# EAGLE library part TEN5_DUAL (library traco_ten)
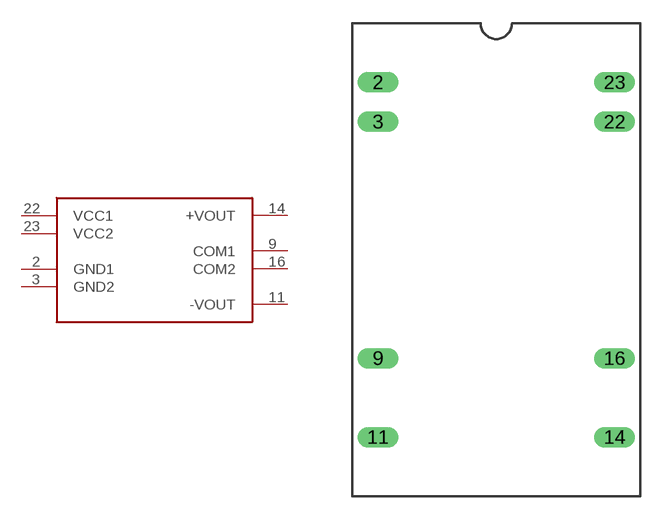
[diagram p1: symbol with the pads of TEN5_DUAL; footprint TEN5_DUAL]

Designator prefix -

## TEN5_DUAL  [TEN5_DUAL]
2  GND1  sup
3  GND2  sup
9  COM1  out
11  -VOUT  out
14  +VOUT  out
16  COM2  out
22  VCC1  sup
23  VCC2  sup

## Footprint TEN5_DUAL (pad centres in mm)
Dual In Line Package
drill 0.813 long: 2 -8.89,10.16; 3 -8.89,7.62; 9 -8.89,-7.62; 11 -8.89,-12.7; 14 6.35,-12.7; 16 6.35,-7.62; 22 6.35,7.62; 23 6.35,10.16